# Altium schematic symbol library SnapEDAsch.SchLib: 1 symbol
Pins are listed as number, name and electrical type; pins without a type are passive.

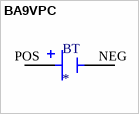
[diagram p0: symbol BA9VPC]

## BA9VPC
designator BT
BATTERY HOLDER 9V PC PIN; MF: MPD; MP: BA9VPC; Package: None; Value: *; Price: None; SnapEDA_Link: https://www.snapeda.com/parts/BA9VPC/MPD/view-part/4389041/?ref=snap; Availability: Unavailable
footprint BAT_BA9VPC
pins: NEG, POS